# EAGLE library part WE-RJ45_HPLE_10/100_BASET_POE (library Wuerth_Elektronik_eiSos_Version_6-12)
WE-RJ45 HPLE Transformer 10/100 BaseT PoE - RJ45 connector with integrated transformer common mode choke - 350 µH min.OCL with 350 mA bias - Complies with IEEE 802.3 - Extended temperature range from 0°C to +70°C available -- ADSL Modem -- Embedded PC -- LAN network applications -- Hub, Router, Switches
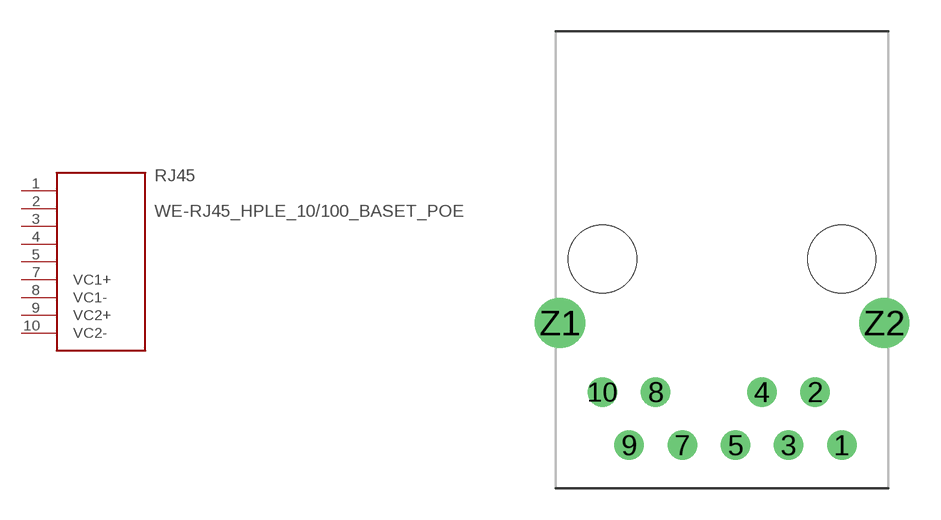
[diagram p86: symbol with the pads of WE-RJ45_HPLE_10/100_BASET_7499211003; footprint WE-RJ45_HPLE_10/100_BASET_7499211003]

Designator prefix RJ45

## WE-RJ45_HPLE_10/100_BASET_POE_7499211003  [WE-RJ45_HPLE_10/100_BASET_7499211003]
1  1  pas
2  2  pas
3  3  pas
4  4  pas
5  5  pas
7  VC1+  pas
8  VC1-  pas
9  VC2+  pas
10  VC2-  pas

## Footprint WE-RJ45_HPLE_10/100_BASET_7499211003 (pad centres in mm)
WE-RJ45 HPLE Transformer 10/100 BaseT, PoE
drill 0.9 round: 1 5.715,-8.89; 2 4.445,-6.35; 3 3.175,-8.89; 4 1.905,-6.35; 5 0.635,-8.89; 7 -1.905,-8.89; 8 -3.175,-6.35; 9 -4.445,-8.89; 10 -5.715,-6.35
drill 1.6 round: Z1 -7.745,-3.05; Z2 7.745,-3.05
hole 3.25 at 5.715,0
hole 3.25 at -5.715,0